# Altium schematic symbol library VOR2121B8.SchLib: 1 symbol
Pins are listed as number, name and electrical type; pins without a type are passive.

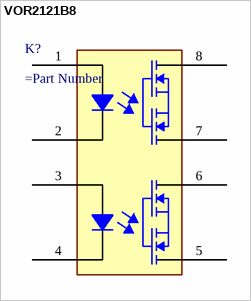
[diagram p0: symbol VOR2121B8]

## VOR2121B8
designator K?
Copyright: Copyright (C) 2026 Ultra Librarian. All rights reserved.
pins: 1, 2, 3, 4, 5, 6, 7, 8